# Altium footprint library RCU.PcbLib: 91 footprints (part 6 of 6)
Each footprint in its own frame and in the unit in brackets; x right, y up, seen from the top. Pads: shape width x height; smd on the part's side, far side on the other; paste and mask are expansions set on the pad; w line width, h text height; cw(c..) or ccw(c..) is an arc to the next point about the centre after c.
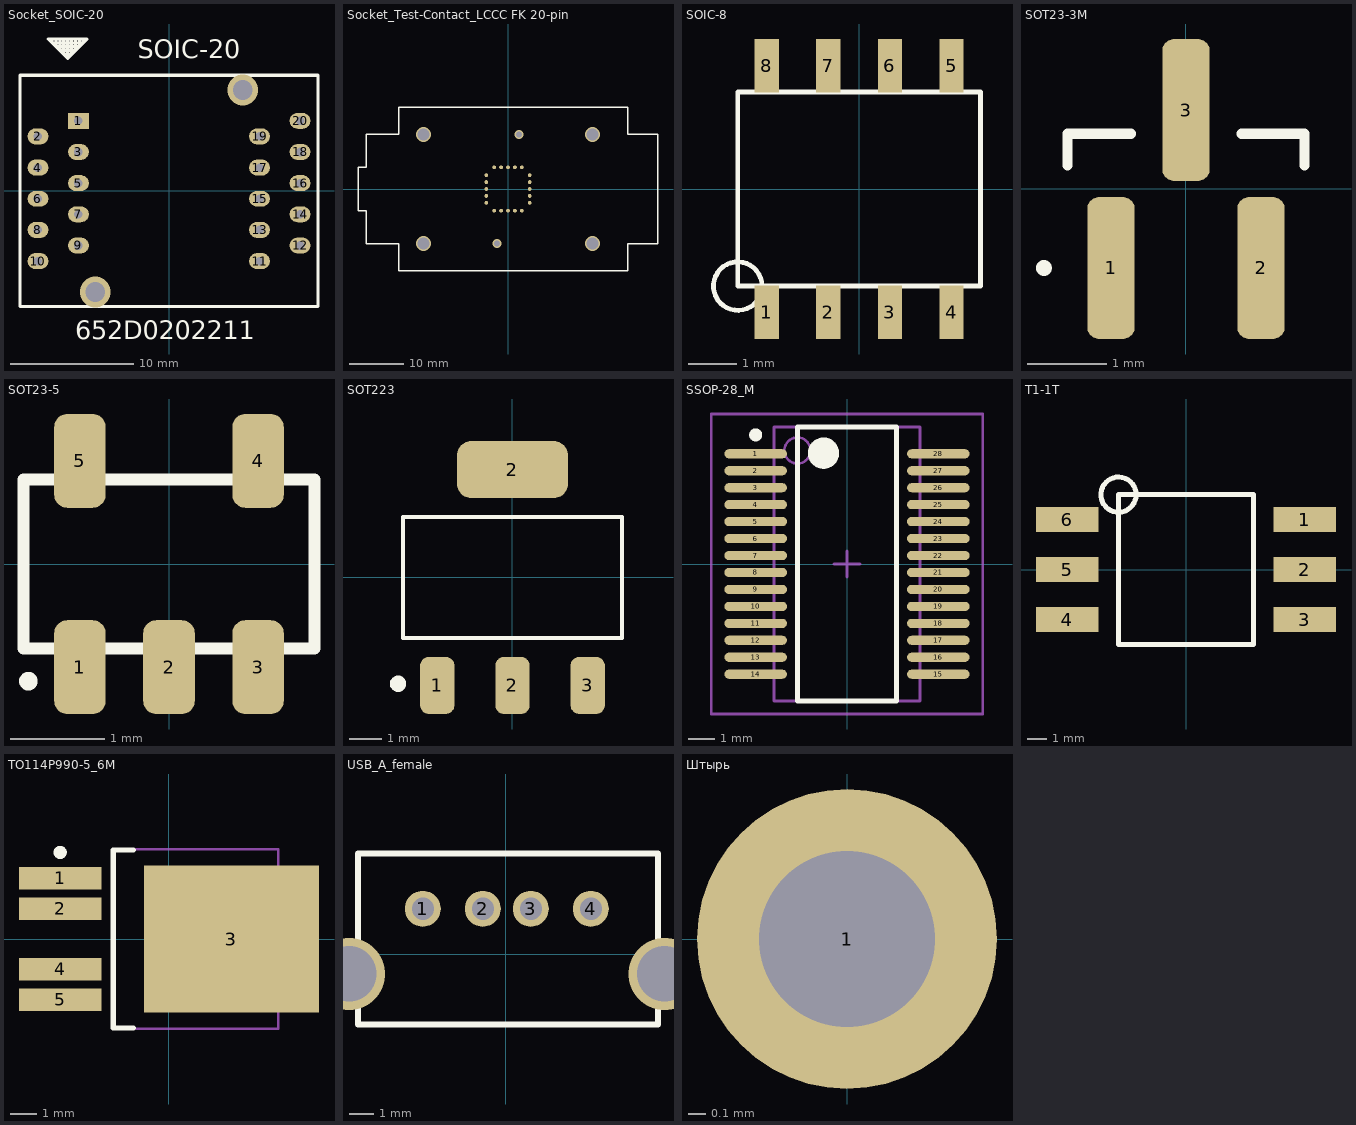
[diagram p5: the footprints below, top view; thin cyan lines are the x and y axes]

## Socket_SOIC-20 [mm] "652D0202211"
pads (20):
  rect 1.7x1.3 hole 0.7: 1(-7.38,5.715)
  oval 1.7x1.3 hole 0.7: 2(-10.68,4.445) 3(-7.38,3.175) 4(-10.68,1.905) 5(-7.38,0.635) 6(-10.68,-0.635) 7(-7.38,-1.905) 8(-10.68,-3.175) 9(-7.38,-4.445) 10(-10.68,-5.715) 11(7.38,-5.715) 12(10.68,-4.445) 13(7.38,-3.175) 14(10.68,-1.905) 15(7.38,-0.635) 16(10.68,0.635) 17(7.38,1.905) 18(10.68,3.175) 19(7.38,4.445) 20(10.68,5.715)
via -6,-8.23 diameter 2.5 hole 1.6
via 6,8.23 diameter 2.5 hole 1.6
Top Overlay:
  lines w0.254: -9.525,12.383 -9.525,12.065 -6.985,12.065 -6.985,12.383 ; -9.207,12.383 -9.207,11.747 -7.302,11.747 -7.302,12.383 ; -8.89,12.383 -8.89,11.43 -7.62,11.43 -7.62,12.383 ; -8.572,12.383 -8.572,11.112 -7.938,11.112 -7.938,12.383 ; -8.255,12.383 -8.255,10.795 ; -8.255,10.795 -9.842,12.383 -6.667,12.383 -8.255,10.795 ; -12.15,-9.43 12.15,-9.43 12.15,9.43 -12.15,9.43 -12.15,-9.43
  text "652D0202211" at -7.62,-12.065 h1.52
  text "SOIC-20" at -2.54,10.795 h1.52

## Socket_Test-Contact_LCCC FK 20-pin [mm]
pads (20):
  round 0.7 smd: 1(0,-3.975) 2(1.27,-3.975) 3(2.54,-3.975) 4(3.975,-2.54) 5(3.975,-1.27) 6(3.975,0) 7(3.975,1.27) 8(3.975,2.54) 9(2.54,3.975) 10(1.27,3.975) 11(0,3.975) 12(-1.27,3.975) 13(-2.54,3.975) 14(-3.975,2.54) 15(-3.975,1.27) 16(-3.975,0) 17(-3.975,-1.27) 18(-3.975,-2.54) 19(-2.54,-3.975) 20(-1.27,-3.975)
via -2,-10 diameter 1.6 hole 1.1
via 2,10 diameter 1.6 hole 1.1
via -15.5,-10 diameter 2.7 hole 2.2
via 15.5,-10 diameter 2.7 hole 2.2
via 15.5,10 diameter 2.7 hole 2.2
via -15.5,10 diameter 2.7 hole 2.2
Top Overlay:
  lines w0.254: -27.5,-4 -27.5,4 -26,4 -26,10 -20,10 -20,15 22,15 22,10 27.5,10 27.5,-10 22,-10 22,-15 -20,-15 -20,-10 -26,-10 -26,-4 -27.5,-4

## SOIC-8 [mm]
pads (8):
  rect 0.5x1.1 smd: 1(-1.905,-2.54) 2(-0.635,-2.54) 3(0.635,-2.54) 4(1.905,-2.54) 5(1.905,2.54) 6(0.635,2.54) 7(-0.635,2.54) 8(-1.905,2.54)
Top Overlay:
  circle w0.1: c-2.5,-2 r0.5
  lines w0.1: -2.5,-2 -2.5,2 2.5,2 2.5,-2 -2.5,-2

## SOT23-3M [mm] "SOT23, 3-Leads, Body 2.9x1.3mm, Pitch 0.95mm, Lead Span 2.5mm"
height 1.1
pads (3):
  rrect50% 0.6x1.8 smd: 1(-0.945,-1.005) 2(0.955,-1.005) 3(0.005,0.995)
Top Overlay:
  circle w0.1: c-1.795,-1.005 r0.05
  lines w0.127: -1.495,0.295 -1.495,0.695 -0.695,0.695 ; 0.705,0.695 1.505,0.695 1.505,0.295
3D body: height 1, standoff -0.02, extent -1.455,-1.25 1.465,1.226

## SOT23-5 [mm] "SOT23, 5-Leads, Body 2.9x1.3mm, Pitch 0.95mm, Lead Span 2.5mm"
height 1.45
pads (5):
  rrect50% 0.55x1 smd: 1(-0.95,-1.1) 2(0,-1.1) 3(0.95,-1.1) 4(0.95,1.1) 5(-0.95,1.1)
Top Overlay:
  circle w0.1: c-1.5,-1.25 r0.05
  lines w0.127: -1.55,-0.9 1.55,-0.9 1.55,0.9 -1.55,0.9 -1.55,-0.9
3D body: height 1.09, standoff -0.01, extent -1.45,-1.422 1.45,1.378

## SOT223 [mm] "SOT-223/SC-73; 4 Leads; Body 6.7 x 7.3 mm, inc. leads (LxW max)"
height 1.8
pads (4):
  rrect50% 1.05x1.75 smd: 1(-2.3,-3.3) 2(0,-3.3) 3(2.3,-3.3)
  rrect50% 3.4x1.75 smd: 2(0,3.3)
Top Overlay:
  circle w0.25: c-3.5,-3.25 r0.125
  lines w0.127: -3.35,-1.85 -3.35,1.85 3.35,1.85 3.35,-1.85 -3.35,-1.85
3D body: height 1.64, standoff -0.01, extent -3.25,-3.5 3.25,3.5

## SSOP-28_M [mm] "SOP, 28-Leads, Body 10.2x5.3mm, Pitch 0.65mm, IPC Low Density"
height 2
pads (28):
  oval 2.4x0.35 smd: 1(-3.5,4.225) 2(-3.5,3.575) 3(-3.5,2.925) 4(-3.5,2.275) 5(-3.5,1.625) 6(-3.5,0.975) 7(-3.5,0.325) 8(-3.5,-0.325) 9(-3.5,-0.975) 10(-3.5,-1.625) 11(-3.5,-2.275) 12(-3.5,-2.925) 13(-3.5,-3.575) 14(-3.5,-4.225) 15(3.5,-4.225) 16(3.5,-3.575) 17(3.5,-2.925) 18(3.5,-2.275) 19(3.5,-1.625) 20(3.5,-0.975) 21(3.5,-0.325) 22(3.5,0.325) 23(3.5,0.975) 24(3.5,1.625) 25(3.5,2.275) 26(3.5,2.925) 27(3.5,3.575) 28(3.5,4.225)
Top Overlay:
  circle w0.25: c-3.5,4.95 r0.125
  circle w0.6: c-0.9,4.25 r0.3
  lines w0.2: -1.9,-5.25 -1.9,5.25 1.9,5.25 1.9,-5.25 -1.9,-5.25
Mechanical 13:
  circle w0.1: c-1.9,4.35 r0.5
  lines w0.1: -2.8,-5.25 -2.8,5.25 2.8,5.25 2.8,-5.25 -2.8,-5.25
Mechanical 15:
  lines w0.1: -0.5,0 0.5,0 ; 0,-0.5 0,0.5 ; -5.2,-5.75 -5.2,5.75 5.2,5.75 5.2,-5.75 -5.2,-5.75
3D body: height 2, standoff 0.05, extent -2.8,-5.25 2.8,5.25

## T1-1T [mm]
pads (6):
  rect 3.18x1.27 smd: 1(6.03,2.54) 2(6.03,0) 3(6.03,-2.54) 4(-6.03,-2.54) 5(-6.03,0) 6(-6.03,2.54)
Top Overlay:
  circle w0.254: c-3.43,3.81 r0.895
  lines w0.254: -3.43,-3.81 3.43,-3.81 3.43,3.81 -3.43,3.81 -3.43,-3.81

## TO114P990-5_6M [mm] "D-PAK, 6-Leads, Body 6.1x6.5mm, Pitch 1.14mm, Lead Span 9.9mm, IPC Low Density"
height 2.39
pads (5):
  rect 3.1x0.85 smd: 1(-4.1,2.286) 2(-4.1,1.143) 4(-4.1,-1.143) 5(-4.1,-2.286)
  rect 6.6x5.55 smd: 3(2.35,0)
Top Overlay:
  circle w0.25: c-4.1,3.261 r0.125
  lines w0.2: -1.35,-3.35 -2.1,-3.35 -2.1,3.35 -1.35,3.35
Mechanical 13:
  lines w0.1: -2.1,-3.375 -2.1,3.375 4.12,3.375 4.12,-3.375 -2.1,-3.375
3D body: height 2.39, standoff 0, extent -2.1,-3.375 4.12,3.375

## USB_A_female [mm]
pads (4):
  round 1.5 hole 0.92: 1(-3.45,1.905) 2(-0.95,1.905) 3(1.05,1.905) 4(3.55,1.905)
via 6.62,-0.805 diameter 3 hole 2.3
via -6.52,-0.805 diameter 3 hole 2.3
Top Overlay:
  lines w0.254: -6.15,-2.915 -6.15,4.205 6.35,4.205 6.35,-2.915 -6.15,-2.915

## Штырь [mm]
pads (1):
  round 1.7 hole 1: 1(0,0)